# Altium schematic symbol library DcDcBuck.SchLib: 3 symbols
Pins are listed as number, name and electrical type; pins without a type are passive.

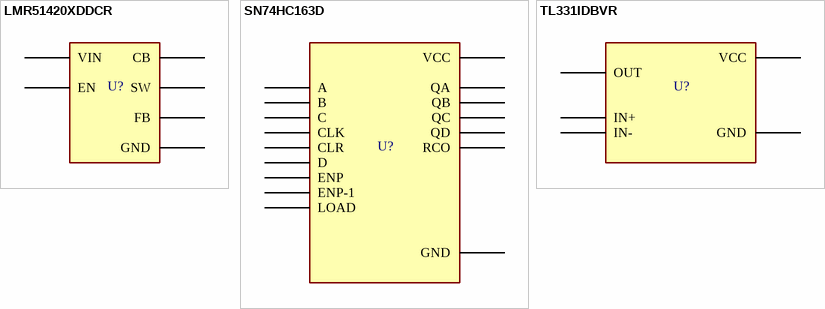
[diagram p0: symbols LMR51420XDDCR to TL331IDBVR]

## LMR51420XDDCR
designator U?, comment IC REG BUCK ADJ 2A SOT23  (value not drawn)
IC REG BUCK ADJ 2A SOT23-THIN "Buck Switching Regulator IC Positive Adjustable 0.6V 1 Output 2A SOT-23-6 Thin,...
footprint SOT-23-6 Thin
pins: 1 GND (power), 2 SW, 3 VIN, 4 FB, 5 EN, 6 CB

## SN74HC163D
designator U?, comment IC COUNTER 4BIT SYNC BIN 16-SOIC  (value not drawn)
Manufacturer: Texas Instruments; Manufacturer Part Number: SN74HC163DR; Category: Counters; Supplier: Digikey; Supplier Part Number: 296-31790-1-ND; RoHS: Yes; Description: IC COUNTER 4BIT SYNC BIN 16-SOIC; Stock: 3569; Pricing: 1=0,27, 10=0,185, 25=0,164, 100=0,1408, 250=0,12964, 500=0,12294, 1000=0,11741 (USD); ComponentLink1URL: https://datasheet.ciiva.com/15093/getdatasheetpartid-393963-15093910.pdf?src-supplier=Verical; ComponentLink1Description: https://datasheet.ciiva.com/15093/getdatasheetpartid-393963-15093910.pdf?src-supplier=Verical; ComponentLink2URL: https://datasheet.ciiva.com/41456/001016672-da-01-en-ic-4bit-bin-cnt-sn74hc163dr-soic-16-tid-41456966.pdf?src-supplier=Conrad; ComponentLink2Description: https://datasheet.ciiva.com/41456/001016672-da-01-en-ic-4bit-bin-cnt-sn74hc163dr-soic-16-tid-41456966.pdf?src-supplier=Conrad; ComponentLink3URL: https://datasheet.ciiva.com/14296/sn54hc163-14296296.pdf?src-supplier=Avnet; ComponentLink3Description: https://datasheet.ciiva.com/14296/sn54hc163-14296296.pdf?src-supplier=Avnet
footprint SOIC16
pins: 1 CLR, 2 CLK, 3 A, 4 B, 5 C, 6 D, 7 ENP, 8 GND, 9 LOAD, 10 ENP-1, 11 QD, 12 QC, 13 QB, 14 QA, 15 RCO, 16 VCC

## TL331IDBVR
designator U?, comment IC COMPARATOR 1 DIFF SOT23-5  (value not drawn)
IC COMPARATOR 1 DIFF SOT23-5 "Comparator General Purpose Open-Collector, Rail-to-Rail SOT-23-5"; Manufacturer: Texas Instruments; Manufacturer Part Number: TL331IDBVR; Designed By: SEFA; Supplier: Digikey; Supplier Part Number: 296-10168-1-ND; RoHS: Yes; Category: Amplifiers - Op Amps, Buffer, Instrumentation; Stock: 32327; Pricing: 1=0,38, 10=0,265, 25=0,2364, 100=0,2042, 250=0,18884, 500=0,17962, 1000=0,17201 (USD); Thickness: 1.2mm; Lead Free: 5697LeadFree; ComponentLink1URL: https://datasheet.ciiva.com/1483/1771402-1483765.pdf?src-supplier=Element14; ComponentLink1Description: https://datasheet.ciiva.com/1483/1771402-1483765.pdf?src-supplier=Element14; ComponentLink2URL: https://datasheet.ciiva.com/1827/tl331-1827297.pdf?src-supplier=Digikey; ComponentLink2Description: https://datasheet.ciiva.com/1827/tl331-1827297.pdf?src-supplier=Digikey; ComponentLink3URL: https://datasheet.ciiva.com/1827/tl331-1827298.pdf?src-supplier=Digikey; ComponentLink3Description: https://datasheet.ciiva.com/1827/tl331-1827298.pdf?src-supplier=Digikey; ComponentLink4URL: https://datasheet.ciiva.com/1827/tl331-1827299.pdf?src-supplier=Digikey; ComponentLink4Description: https://datasheet.ciiva.com/1827/tl331-1827299.pdf?src-supplier=Digikey; ComponentLink5URL: https://datasheet.ciiva.com/2970/tl331-2970638.pdf?src-supplier=Avnet; ComponentLink5Description: https://datasheet.ciiva.com/2970/tl331-2970638.pdf?src-supplier=Avnet; ComponentLink6URL: https://datasheet.ciiva.com/2970/tl331-2970639.pdf?src-supplier=Avnet; ComponentLink6Description: https://datasheet.ciiva.com/2970/tl331-2970639.pdf?src-supplier=Avnet; ComponentLink7URL: https://datasheet.ciiva.com/46384/1887693-46384373.pdf?src-supplier=Element14; ComponentLink7Description: https://datasheet.ciiva.com/46384/1887693-46384373.pdf?src-supplier=Element14; ComponentLink8URL: https://datasheet.ciiva.com/46384/1887693-46384376.pdf?src-supplier=Element14; ComponentLink8Description: https://datasheet.ciiva.com/46384/1887693-46384376.pdf?src-supplier=Element14
footprint SOT23-5
pins: 1 IN-, 2 GND, 3 IN+, 4 OUT, 5 VCC